# Altium schematic symbol library Regulateur_Tension.SchLib: 2 symbols
Pins are listed as number, name and electrical type; pins without a type are passive.

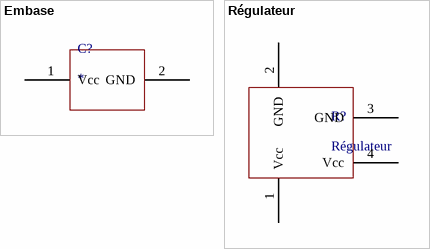
[diagram p0: symbols Embase to Régulateur]

## Embase
designator C?
Embase 2 broches
footprint POWER__2 (Embase 895-1836)
pins: 1 Vcc (power), 2 GND (power)

## Régulateur
designator R?
Régulateur de tension
footprint Régulateur
pins: 1 Vcc (oe), 2 GND (power), 3 GND (power), 4 Vcc (power)